# Altium schematic symbol library LCD Display - Graphic.SchLib: 10 symbols
Pins are listed as number, name and electrical type; pins without a type are passive.

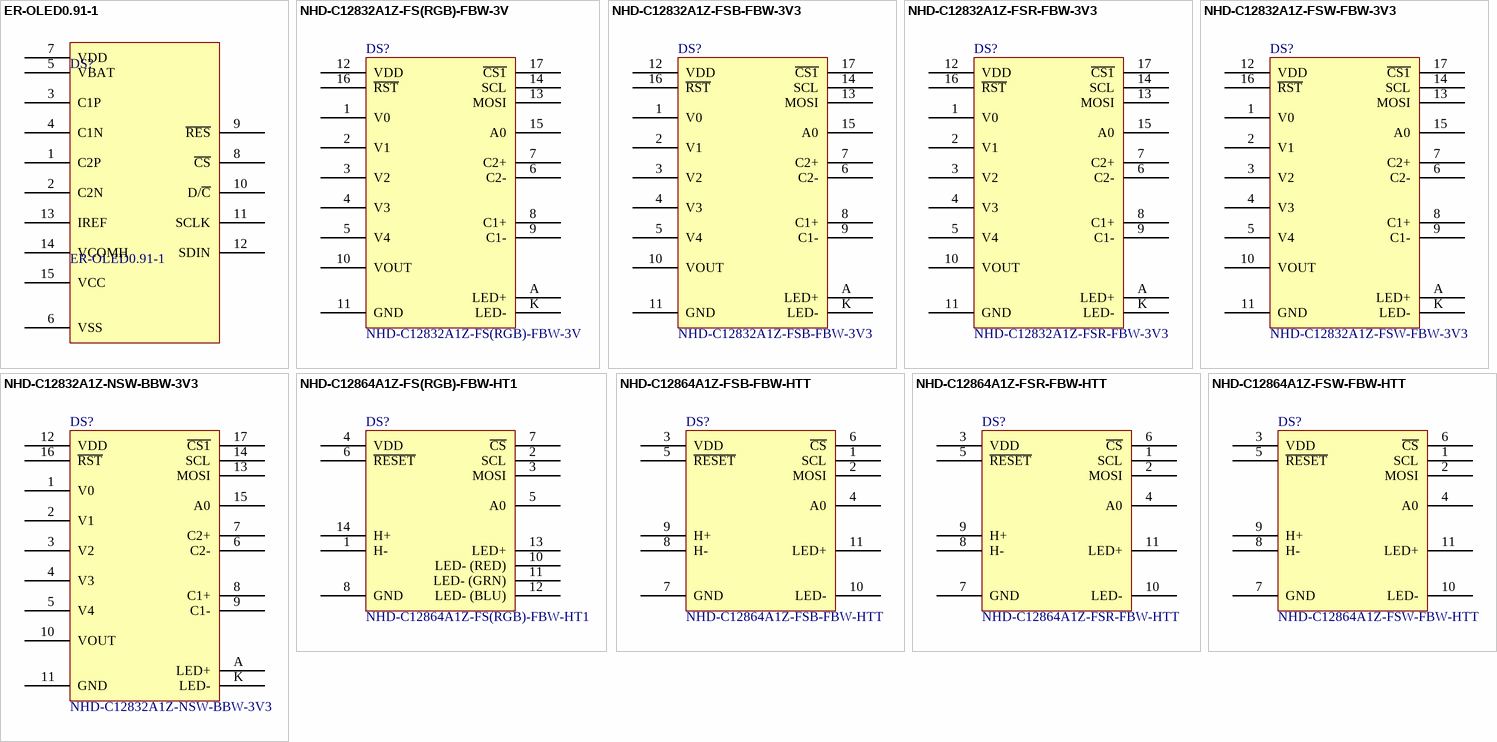
[diagram p0: symbols ER-OLED0.91-1 to NHD-C12864A1Z-FSW-FBW-HTT]

## ER-OLED0.91-1
designator DS?
LCD COG GRAPH 128X64 NEUTRAL; Manufacturer: EastRising; Display Type: OLED; Display Mode: Transflective; Viewing Area: 22mm W x 5.5mm H; Dot Pixels: 128 x 32; Graphics Colour: Blue; Background Colour: Black; Dot Size: 0.159mm x 0.159; Dot Pitch: 0.175mm * 0.175mm; Data Interface: SPI/I2C; Part Number: ER-OLED0.91-1; PartId: 7906; Supplier 1: Buydisplay.com; Supplier Part Number 1: ER-OLED0.91-1; ComponentLink1Description: Datasheet; ComponentLink1URL: https://www.buydisplay.com/download/manual/ER-OLED0.91-1_Series_Datasheet.pdf; ComponentLink2Description: Buydisplay; ComponentLink2URL: https://www.buydisplay.com/default/0-91-inch-serial-128x32-blue-oled-display-module-ssd1306-2-8v; Price: 3.44$; Touchscreen: -; Diagonal Screen Size: -
footprint ER-OLED0.91-1
pins: 1 C2P, 2 C2N, 3 C1P, 4 C1N, 5 VBAT, 6 VSS, 7 VDD, 8 ~{CS}, 9 ~{RES}, 10 D/~{C}, 11 SCLK, 12 SDIN, 13 IREF, 14 VCOMH, 15 VCC

## NHD-C12832A1Z-FS(RGB)-FBW-3V
designator DS?
LCD COG GRAPH 128X32 WH TRANSFL; Manufacturer: Newhaven Display Intl; Display Type: FSTN - Film Super-Twisted Nematic; Display Mode: Transflective; Viewing Area: 36.00mm W x 12.00mm H; Backlight: LED - Red/Green/Blue; Graphics Colour: Black (Red/Green/Blue - Inverted); Background Colour: Red/Green/Blue (Black - Inverted); Dot Size: 0.23mm W x 0.23mm H; Dot Pitch: 0.25mm W x 0.25mm H; Data Interface: SPI; Part Number: NHD-C12832A1Z-FS(RGB)-FBW-3V; PartId: 7905; Supplier 1: Digi-Key; Supplier Part Number 1: NHD-C12832A1Z-FS(RGB)-FBW-3V-ND; ComponentLink1Description: Datasheet; ComponentLink1URL: http://www.newhavendisplay.com/specs/NHD-C12832A1Z-FSRGB-FBW-3V.pdf; ComponentLink2Description: Digi-Key Listing; ComponentLink2URL: http://www.digikey.ca/product-detail/en/NHD-C12832A1Z-FS(RGB)-FBW-3V/NHD-C12832A1Z-FS(RGB)-FBW-3V-ND/5057935; Price: 13.1242; Touchscreen: -; Diagonal Screen Size: -; Dot Pixels: 128 x 32
footprint NHD-C12832A1Z-FS(RGB)-FBW
pins: 1 V0, 2 V1, 3 V2, 4 V3, 5 V4, 6 C2-, 7 C2+, 8 C1+, 9 C1-, 10 VOUT, 11 GND, 12 VDD, 13 MOSI, 14 SCL, 15 A0, 16 ~{RST}, 17 ~{CS1}, A LED+, K LED-

## NHD-C12832A1Z-FSB-FBW-3V3
designator DS?
LCD COG GRAPH 128X32 BLUE BKLT; Manufacturer: Newhaven Display Intl; Display Type: FSTN - Film Super-Twisted Nematic; Display Mode: Transflective; Viewing Area: 36.00mm W x 12.00mm H; Backlight: LED - Blue; Graphics Colour: Black (Blue - Inverted); Background Colour: Blue (Black - Inverted); Dot Size: 0.23mm W x 0.23mm H; Dot Pitch: 0.25mm W x 0.25mm H; Data Interface: SPI; Part Number: NHD-C12832A1Z-FSB-FBW-3V3; PartId: 7903; Supplier 1: Digi-Key; Supplier Part Number 1: NHD-C12832A1Z-FSB-FBW-3V3-ND; ComponentLink1Description: Datasheet; ComponentLink1URL: http://www.newhavendisplay.com/specs/NHD-C12832A1Z-FSB-FBW-3V3.pdf; ComponentLink2Description: Digi-Key Listing; ComponentLink2URL: http://www.digikey.ca/product-detail/en/NHD-C12832A1Z-FSB-FBW-3V3/NHD-C12832A1Z-FSB-FBW-3V3-ND/2626393; Price: 15.88; Touchscreen: -; Diagonal Screen Size: -; Dot Pixels: 128 x 32
footprint NHD-C12832A1Z BLUE
pins: 1 V0, 2 V1, 3 V2, 4 V3, 5 V4, 6 C2-, 7 C2+, 8 C1+, 9 C1-, 10 VOUT, 11 GND, 12 VDD, 13 MOSI, 14 SCL, 15 A0, 16 ~{RST}, 17 ~{CS1}, A LED+, K LED-

## NHD-C12832A1Z-FSR-FBW-3V3
designator DS?
LCD COG GRAPH 128X32 RED BKLT; Manufacturer: Newhaven Display Intl; Display Type: FSTN - Film Super-Twisted Nematic; Display Mode: Transflective; Viewing Area: 36.00mm W x 12.00mm H; Backlight: LED - Red; Graphics Colour: Black (Red - Inverted); Background Colour: Red (Black - Inverted); Dot Size: 0.23mm W x 0.23mm H; Dot Pitch: 0.25mm W x 0.25mm H; Data Interface: SPI; Part Number: NHD-C12832A1Z-FSR-FBW-3V3; PartId: 7904; Supplier 1: Digi-Key; Supplier Part Number 1: NHD-C12832A1Z-FSR-FBW-3V3-ND; ComponentLink1Description: Datasheet; ComponentLink1URL: http://www.newhavendisplay.com/specs/NHD-C12832A1Z-FSR-FBW-3V3.pdf; ComponentLink2Description: Digi-Key Listing; ComponentLink2URL: http://www.digikey.ca/product-detail/en/NHD-C12832A1Z-FSR-FBW-3V3/NHD-C12832A1Z-FSR-FBW-3V3-ND/2626408; Price: 15.88; Touchscreen: -; Diagonal Screen Size: -; Dot Pixels: 128 x 32
footprint NHD-C12832A1Z RED
pins: 1 V0, 2 V1, 3 V2, 4 V3, 5 V4, 6 C2-, 7 C2+, 8 C1+, 9 C1-, 10 VOUT, 11 GND, 12 VDD, 13 MOSI, 14 SCL, 15 A0, 16 ~{RST}, 17 ~{CS1}, A LED+, K LED-

## NHD-C12832A1Z-FSW-FBW-3V3
designator DS?
LCD COG GRAPHIC 128X32; Manufacturer: Newhaven Display Intl; Display Type: FSTN - Film Super-Twisted Nematic; Display Mode: Transflective; Viewing Area: 36.00mm W x 12.00mm H; Backlight: LED - White; Graphics Colour: Black (White - Inverted); Background Colour: White (Black - Inverted); Dot Size: 0.23mm W x 0.23mm H; Dot Pitch: 0.25mm W x 0.25mm H; Data Interface: SPI; Part Number: NHD-C12832A1Z-FSW-FBW-3V3; PartId: 7901; Supplier 1: Digi-Key; Supplier Part Number 1: NHD-C12832A1Z-FSW-FBW-3V3-ND; ComponentLink1Description: Datasheet; ComponentLink1URL: http://www.newhavendisplay.com/specs/NHD-C12832A1Z-FSW-FBW-3V3.pdf; ComponentLink2Description: Digi-Key Listing; ComponentLink2URL: http://www.digikey.ca/product-detail/en/NHD-C12832A1Z-FSW-FBW-3V3/NHD-C12832A1Z-FSW-FBW-3V3-ND/2059236; Price: 15.88; Touchscreen: -; Diagonal Screen Size: -; Dot Pixels: 128 x 32
footprint NHD-C12832A1Z WHITE
pins: 1 V0, 2 V1, 3 V2, 4 V3, 5 V4, 6 C2-, 7 C2+, 8 C1+, 9 C1-, 10 VOUT, 11 GND, 12 VDD, 13 MOSI, 14 SCL, 15 A0, 16 ~{RST}, 17 ~{CS1}, A LED+, K LED-

## NHD-C12832A1Z-NSW-BBW-3V3
designator DS?
LCD COG GRAPHIC 128X32; Manufacturer: Newhaven Display Intl; Display Type: STN - Super-Twisted Nematic; Display Mode: Transmissive; Viewing Area: 36.00mm W x 12.00mm H; Backlight: LED - White; Graphics Colour: White (Blue - Inverted); Background Colour: Blue (White - Inverted); Dot Size: 0.23mm W x 0.23mm H; Dot Pitch: 0.25mm W x 0.25mm H; Data Interface: SPI; Part Number: NHD-C12832A1Z-NSW-BBW-3V3; PartId: 7902; Supplier 1: Digi-Key; Supplier Part Number 1: NHD-C12832A1Z-NSW-BBW-3V3-ND; ComponentLink1Description: Datasheet; ComponentLink1URL: http://www.newhavendisplay.com/specs/NHD-C12832A1Z-NSW-BBW-3V3.pdf; ComponentLink2Description: Digi-Key Listing; ComponentLink2URL: http://www.digikey.ca/product-detail/en/NHD-C12832A1Z-NSW-BBW-3V3/NHD-C12832A1Z-NSW-BBW-3V3-ND/2059235; Price: 15.88; Touchscreen: -; Diagonal Screen Size: -; Dot Pixels: 128 x 32
footprint NHD-C12832A1Z BLUE
pins: 1 V0, 2 V1, 3 V2, 4 V3, 5 V4, 6 C2-, 7 C2+, 8 C1+, 9 C1-, 10 VOUT, 11 GND, 12 VDD, 13 MOSI, 14 SCL, 15 A0, 16 ~{RST}, 17 ~{CS1}, A LED+, K LED-

## NHD-C12864A1Z-FS(RGB)-FBW-HT1
designator DS?
LCD COG GRAPH 128X64 RGB BKLT; Manufacturer: Newhaven Display Intl; Display Type: FSTN - Film Super-Twisted Nematic; Display Mode: Transflective; Viewing Area: 70.70mm W x 38.80mm H; Backlight: LED - Red/Green/Blue; Graphics Colour: Black (Red/Green/Blue - Inverted); Background Colour: Red/Green/Blue (Black - Inverted); Dot Size: 0.48mm W x 0.48mm H; Dot Pitch: 0.52mm W x 0.52mm H; Data Interface: SPI; Part Number: NHD-C12864A1Z-FS(RGB)-FBW-HT1; PartId: 7909; Supplier 1: Digi-Key; Supplier Part Number 1: NHD-C12864A1Z-FS(RGB)-FBW-HT1-ND; ComponentLink1Description: Datasheet; ComponentLink1URL: http://www.newhavendisplay.com/specs/NHD-C12864A1Z-FSRGB-FBW-HT1.pdf; ComponentLink2Description: Digi-Key Listing; ComponentLink2URL: http://www.digikey.ca/product-detail/en/NHD-C12864A1Z-FS(RGB)-FBW-HT1/NHD-C12864A1Z-FS(RGB)-FBW-HT1-ND/2626397; Price: 31.76; Touchscreen: -; Diagonal Screen Size: -; Dot Pixels: 128 x 64
footprint NHD-C12864A1Z RGB
pins: 1 H-, 2 SCL, 3 MOSI, 4 VDD, 5 A0, 6 ~{RESET}, 7 ~{CS}, 8 GND, 10 LED- (RED), 11 LED- (GRN), 12 LED- (BLU), 13 LED+, 14 H+

## NHD-C12864A1Z-FSB-FBW-HTT
designator DS?
LCD COG GRAPH 128X64 BLUE BKLT; Manufacturer: Newhaven Display Intl; Display Type: FSTN - Film Super-Twisted Nematic; Display Mode: Transflective; Viewing Area: 70.70mm W x 38.80mm H; Backlight: LED - Blue; Graphics Colour: Black (Blue - Inverted); Background Colour: Blue (Black - Inverted); Dot Size: 0.48mm W x 0.48mm H; Dot Pitch: 0.52mm W x 0.52mm H; Data Interface: SPI; Part Number: NHD-C12864A1Z-FSB-FBW-HTT; PartId: 7907; Supplier 1: Digi-Key; Supplier Part Number 1: NHD-C12864A1Z-FSB-FBW-HTT-ND; ComponentLink1Description: Datasheet; ComponentLink1URL: http://www.newhavendisplay.com/specs/NHD-C12864A1Z-FSB-FBW-HTT.pdf; ComponentLink2Description: Digi-Key Listing; ComponentLink2URL: http://www.digikey.ca/product-detail/en/NHD-C12864A1Z-FSB-FBW-HTT/NHD-C12864A1Z-FSB-FBW-HTT-ND/2626396; Price: 30.32; Touchscreen: -; Diagonal Screen Size: -; Dot Pixels: 128 x 64
footprint NHD-C12864A1Z BLUE
pins: 1 SCL, 2 MOSI, 3 VDD, 4 A0, 5 ~{RESET}, 6 ~{CS}, 7 GND, 8 H-, 9 H+, 10 LED-, 11 LED+

## NHD-C12864A1Z-FSR-FBW-HTT
designator DS?
LCD COG GRAPH 128X64 RED BKLT; Manufacturer: Newhaven Display Intl; Display Type: FSTN - Film Super-Twisted Nematic; Display Mode: Transflective; Viewing Area: 70.70mm W x 38.80mm H; Backlight: LED - Red; Graphics Colour: Black (Red - Inverted); Background Colour: Red (Black - Inverted); Dot Size: 0.48mm W x 0.48mm H; Dot Pitch: 0.52mm W x 0.52mm H; Data Interface: SPI; Part Number: NHD-C12864A1Z-FSR-FBW-HTT; PartId: 7908; Supplier 1: Digi-Key; Supplier Part Number 1: NHD-C12864A1Z-FSR-FBW-HTT-ND; ComponentLink1Description: Datasheet; ComponentLink1URL: http://www.newhavendisplay.com/specs/NHD-C12864A1Z-FSR-FBW-HTT.pdf; ComponentLink2Description: Digi-Key Listing; ComponentLink2URL: http://www.digikey.ca/product-detail/en/NHD-C12864A1Z-FSR-FBW-HTT/NHD-C12864A1Z-FSR-FBW-HTT-ND/2626395; Price: 27.9738; Touchscreen: -; Diagonal Screen Size: -; Dot Pixels: 128 x 64
footprint NHD-C12864A1Z RED
pins: 1 SCL, 2 MOSI, 3 VDD, 4 A0, 5 ~{RESET}, 6 ~{CS}, 7 GND, 8 H-, 9 H+, 10 LED-, 11 LED+

## NHD-C12864A1Z-FSW-FBW-HTT
designator DS?
LCD COG GRAPH 128X64 NEUTRAL; Manufacturer: Newhaven Display Intl; Display Type: FSTN - Film Super-Twisted Nematic; Display Mode: Transflective; Viewing Area: 70.70mm W x 38.80mm H; Backlight: LED - White; Graphics Colour: Black (White - Inverted); Background Colour: White (Black - Inverted); Dot Size: 0.48mm W x 0.48mm H; Dot Pitch: 0.52mm W x 0.52mm H; Data Interface: SPI; Part Number: NHD-C12864A1Z-FSW-FBW-HTT; PartId: 7906; Supplier 1: Digi-Key; Supplier Part Number 1: NHD-C12864A1Z-FSW-FBW-HTT-ND; ComponentLink1Description: Datasheet; ComponentLink1URL: http://www.newhavendisplay.com/specs/NHD-C12864A1Z-FSW-FBW-HTT.pdf; ComponentLink2Description: Digi-Key Listing; ComponentLink2URL: http://www.digikey.ca/product-detail/en/NHD-C12864A1Z-FSW-FBW-HTT/NHD-C12864A1Z-FSW-FBW-HTT-ND/3767469; Price: 30.32; Touchscreen: -; Diagonal Screen Size: -; Dot Pixels: 128 x 64
footprint NHD-C12864A1Z WHITE
pins: 1 SCL, 2 MOSI, 3 VDD, 4 A0, 5 ~{RESET}, 6 ~{CS}, 7 GND, 8 H-, 9 H+, 10 LED-, 11 LED+